# Altium schematic symbol library Pioneer_lab.SchLib: 7 symbols
Pins are listed as number, name and electrical type; pins without a type are passive.

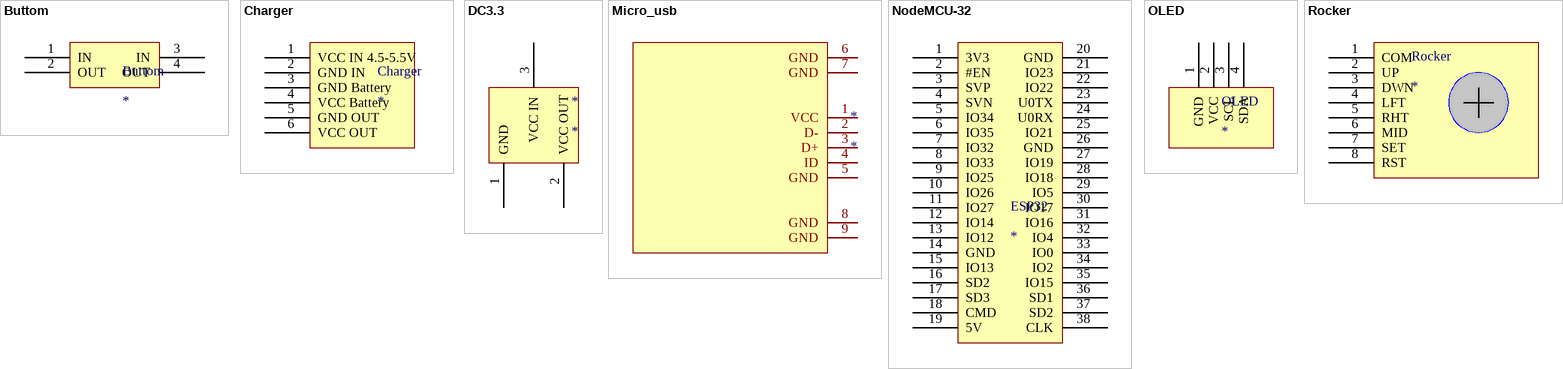
[diagram p0: symbols Buttom to Rocker]

## Buttom
designator Buttom
pins: 1 IN, 2 OUT, 3 IN, 4 OUT

## Charger
designator Charger
pins: 1 VCC IN 4.5-5.5V, 2 GND IN, 3 GND Battery, 4 VCC Battery, 5 GND OUT, 6 VCC OUT

## DC3.3
designator *
pins: 1 GND, 2 VCC OUT, 3 VCC IN

## Micro_usb
designator *
pins: 1 VCC, 2 D-, 3 D+, 4 ID, 5 GND, 6 GND, 7 GND, 8 GND, 9 GND

## NodeMCU-32
designator ESP32
pins: 1 3V3, 2 #EN, 3 SVP, 4 SVN, 5 IO34, 6 IO35, 7 IO32, 8 IO33, 9 IO25, 10 IO26, 11 IO27, 12 IO14, 13 IO12, 14 GND, 15 IO13, 16 SD2, 17 SD3, 18 CMD, 19 5V, 20 GND, 21 IO23, 22 IO22, 23 U0TX, 24 U0RX, 25 IO21, 26 GND, 27 IO19, 28 IO18, 29 IO5, 30 IO17, 31 IO16, 32 IO4, 33 IO0, 34 IO2, 35 IO15, 36 SD1, 37 SD2, 38 CLK

## OLED
designator OLED
pins: 1 GND, 2 VCC, 3 SCL, 4 SDA

## Rocker
designator Rocker
pins: 1 COM, 2 UP, 3 DWN, 4 LFT, 5 RHT, 6 MID, 7 SET, 8 RST